# Altium schematic symbol library Relay_Components.SchLib: 1 symbol
Pins are listed as number, name and electrical type; pins without a type are passive.

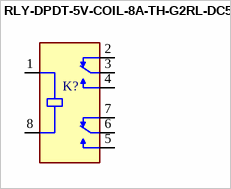
[diagram p0: symbol RLY-DPDT-5V-COIL-8A-TH-G2RL-DC5]

## RLY-DPDT-5V-COIL-8A-TH-G2RL-DC5
designator K?  (value not drawn)
Relay, 5V 80mA coil.  8A Contacts, TH; MFG: Omron; Value: G2RL-24-DC5; QPN: 137-000614-2245; MFGPN: G2RL-24-DC5
footprint RLY-5V-8A-G2RL-24-DC5
pins: 1 COIL1, 2 NC1, 3 COM1, 4 NO1, 5 NO2, 6 COM2, 7 NC2, 8 COIL2